# Altium schematic symbol library capacitors.SchLib: 5 symbols
Pins are listed as number, name and electrical type; pins without a type are passive.

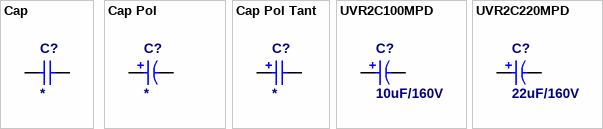
[diagram p0: symbols Cap to UVR2C220MPD]

## Cap
designator C?
Capacitor; ComponentLink1Description: datasheet; ComponentLink2Description: supplier; Value: *
footprint C0805
footprint C1206
footprint CC2,5
footprint CC5
footprint CC7,5
footprint CC5-10-15
footprint C0603
footprint C0402
footprint CF5X10,5X10,3-7,5 (Polyester capacitor, 5(W)x10,5(H)x10,3(L); WIMA MKS4)
footprint CF2,5X7X10-7,5 (Polyester capacitor, 2,5(W)x7(H)x10(L); WIMA MKS4)
simulation model CAP (Default semiconductor capacitor)
footprint C1206_OLD
footprint C1210 (Chip Capacitor, Body 3.2x2.5mm, IPC High Density)
pins: 1, 2
2 alternate drawings of the same symbol

## Cap Pol
designator C?
Polarized Capacitor; ComponentLink1Description: datasheet; ComponentLink2Description: supplier; Value: *
footprint CE6,3x11-2,5 (Aluminium Electrolytic Capacitor -  Radius: 6,3mm, Height: 11mm, PinSpacing: 2,5mm)
footprint CE8x11,5-3,5 (Aluminium Electrolytic Capacitor -  Radius: 8mm, Height: 11,5mm, PinSpacing: 3,5mm)
footprint CE10x16-5 (Aluminium Electrolytic Capacitor -  Radius: 10mm, Height: 16mm, PinSpacing: 5mm)
footprint CE22-10 (Aluminium Electrolytic Capacitor -  Radius: 22mm, Height: xx mm, PinSpacing: 10mm)
footprint CE4x7-1,5 (Aluminium Electrolytic Capacitor -  Radius: 4mm, Height: 7mm, PinSpacing: 2mm)
footprint CE5x7-2 (Aluminium Electrolytic Capacitor -  Radius: 5mm, Height: 7mm, PinSpacing: 2mm)
footprint CE5x7-2_RA (Aluminium Electrolytic Capacitor -  Radius: 5mm, Height: 7mm, PinSpacing: 2mm, Right Angle)
footprint CE5x11-2 (Aluminium Electrolytic Capacitor -  Radius: 5mm, Height: 11mm, PinSpacing: 2mm)
footprint CE5x11-2_RA (Aluminium Electrolytic Capacitor -  Radius: 5mm, Height: 11mm, PinSpacing: 2mm, Right Angle)
footprint CE6,3x7-2,5 (Aluminium Electrolytic Capacitor -  Radius: 6,3mm, Height: 7mm, PinSpacing: 2,5mm)
footprint CE6,3x7-2,5_RA (Aluminium Electrolytic Capacitor -  Radius: 6,3mm, Height: 7mm, PinSpacing: 2,5mm, Right Angle)
footprint CE6,3x11-2 (Aluminium Electrolytic Capacitor -  Radius: 6,3mm, Height: 11mm, PinSpacing: 2,5mm)
footprint CE6,3x11-2_RA (Aluminium Electrolytic Capacitor -  Radius: 6,3mm, Height: 11mm, PinSpacing: 2mm, Right Angle)
footprint CE6,3x11-2,5_RA (Aluminium Electrolytic Capacitor -  Radius: 6,3mm, Height: 11mm, PinSpacing: 2,5mm, Right Angle)
footprint CE6,3x12,5-2,5 (Aluminium Electrolytic Capacitor -  Radius: 6,3mm, Height: 11mm, PinSpacing: 2,5mm)
footprint CE6,3x12,5-2,5_RA (Aluminium Electrolytic Capacitor -  Radius: 6,3mm, Height: 12,5mm, PinSpacing: 2,5mm, Right Angle)
footprint CE8x11,5-3,5_RA (Aluminium Electrolytic Capacitor -  Radius: 8mm, Height: 11,5mm, PinSpacing: 3,5mm, Right Angle)
footprint CE10x12,5-5 (Aluminium Electrolytic Capacitor -  Radius: 10mm, Height: 12,5mm, PinSpacing: 5mm)
footprint CE10x12,5-5_RA (Aluminium Electrolytic Capacitor -  Radius: 10mm, Height: 12,5mm, PinSpacing: 5mm, Right Angle)
footprint CE10x16-5_RA (Aluminium Electrolytic Capacitor -  Radius: 10mm, Height: 16mm, PinSpacing: 5mm, Right Angle)
footprint CE10x20-5 (Aluminium Electrolytic Capacitor -  Radius: 10mm, Height: 20mm, PinSpacing: 5mm)
footprint CE10x20-5_RA (Aluminium Electrolytic Capacitor -  Radius: 10mm, Height: 20mm, PinSpacing: 5mm, Right Angle)
footprint CES_A_3.3x3.3_5.4 (Electrolit Capacitor A Size; base: 3.3x3.3mm, height: 5.4mm)
footprint CES_B_4.3x4.3_5.4 (SMT Aluminum Electrolytic Capacitor, B Size; base: 4.3x4.3mm, height: 5.4mm)
footprint CES_C_5.3x5.3_5.4 (SMT Aluminum Electrolytic Capacitor, C Size; base: 5.3x5.3mm, height: 5.4mm)
footprint CES_D_6.6x6.6_5.4 (SMT Aluminum Electrolytic Capacitor, D Size; base: 6.6x6.6mm, height: 5.4mm)
footprint CES_D8_6.6x6.6_7.7 (SMT Aluminum Electrolytic Capacitor, D8 Size; base: 6.6x6.6mm, height: 7.7mm)
footprint CES_E_8.3x8.3_6.2 (SMT Aluminum Electrolytic Capacitor, E Size; base: 8.3x8.3mm, height: 6.2mm)
footprint CES_F_8.3x8.3_10.2 (SMT Aluminum Electrolytic Capacitor, F Size; base: 8.3x8.3mm, height: 10.2mm)
footprint CES_G_10.3x10.3_10.2 (SMT Aluminum Electrolytic Capacitor, G Size; base: 10.3x10.3mm, height: 10.2mm)
simulation model CAP (Default semiconductor capacitor)
pins: 1, 2
2 alternate drawings of the same symbol

## Cap Pol Tant
designator C?
Polarized Tantalum Capacitor; ComponentLink1Description: datasheet; ComponentLink2Description: supplier; Value: *
footprint SMDV
footprint SMDD (SMD D size tantalum capacitor)
footprint SMDC
footprint SMDB
footprint SMDA
footprint NOSD107
simulation model CAP (Default semiconductor capacitor)
footprint SMDE (SMD E size tantalum capacitor)
pins: 1, 2
2 alternate drawings of the same symbol

## UVR2C100MPD
designator C?, comment 10uF/160V
Capacitor: electrolytic; THT; 10uF; 160VDC; Ø8x11.5mm; Pitch:3.5mm; ComponentLink1Description: datasheet; ComponentLink2Description: supplier; Supplier 1: TME; Supplier 2: Farnell; Supplier 3: Mouser; Supplier Part Number 1: UVR2C100MPD; Supplier Part Number 2: 1899772; Supplier Part Number 3: 647-UVR2C100MPD1TD; Value: 10uF/160V
simulation model CAP (Default semiconductor capacitor)
footprint CE8x11,5-3,5 (Aluminium Electrolytic Capacitor -  Radius: 8mm, Height: 11,5mm, PinSpacing: 3,5mm)
footprint CE8x11,5-3,5_RA (Aluminium Electrolytic Capacitor -  Radius: 8mm, Height: 11,5mm, PinSpacing: 3,5mm, Right Angle)
pins: 1, 2
2 alternate drawings of the same symbol

## UVR2C220MPD
designator C?, comment 22uF/160V
Capacitor: electrolytic; THT; 22uF; 160VDC; Ø10x16mm; Pitch:5mm; ComponentLink1Description: datasheet; ComponentLink2Description: supplier; Supplier 1: Farnell; Supplier 2: TME; Supplier Part Number 1: 1899774; Supplier Part Number 2: UVR2C220MPD; Value: 22uF/160V
simulation model CAP (Default semiconductor capacitor)
footprint CE10x16-5 (Aluminium Electrolytic Capacitor -  Radius: 10mm, Height: 16mm, PinSpacing: 5mm)
pins: 1, 2
2 alternate drawings of the same symbol